# Altium footprint library aiskylab-16PCBAs.PcbLib: 8 footprints
Each footprint in its own frame and in the unit in brackets; x right, y up, seen from the top. Pads: shape width x height; smd on the part's side, far side on the other; paste and mask are expansions set on the pad; w line width, h text height; cw(c..) or ccw(c..) is an arc to the next point about the centre after c.
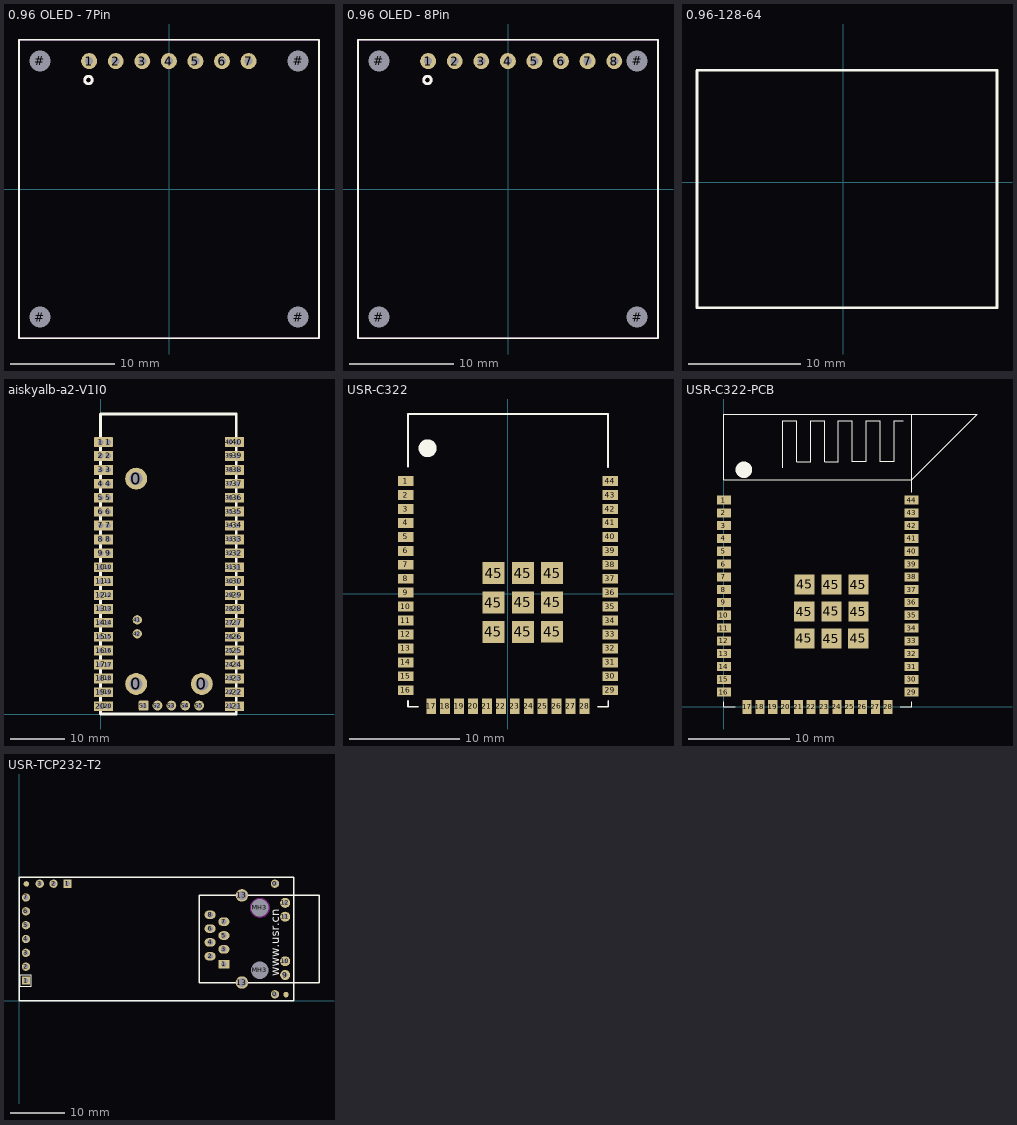
[diagram p0: the footprints below, top view; thin cyan lines are the x and y axes]

## 0.96 OLED - 7Pin [mil]
pads (11):
  round 60 hole 30: 1(-300.5,481.26) 2(-200.5,481.26) 3(-100.5,481.26) 4(-0.5,481.26) 5(99.5,481.26) 6(199.5,481.26) 7(299.5,481.26)
  round 60 hole 78.74: #(-485.76,-482.26) #(-485.76,482.26) #(485.76,-482.26) #(485.76,482.26)
Top Overlay:
  circle w10: c-303,410 r14.14
  lines w5.91: -564.5,-561 -564.5,561 564.5,561 564.5,-561 -564.5,-561
Top Designator:
  text ".Designator" at -300.06,-19.05 h60
Top Assembly:
  circle w10: c-303,410 r14.14
  lines w5.91: -564.5,-561 -564.5,561 564.5,561 564.5,-561 -564.5,-561
Top Component Outline:
  circle w10: c-303,410 r14.14
  lines w5.91: -564.5,-561 -564.5,561 564.5,561 564.5,-561 -564.5,-561
3D body "096-oled.stp": height 204.72, standoff -239.69, extent -567.77,-555.82 559.79,565.83

## 0.96 OLED - 8Pin [mil]
pads (12):
  round 60 hole 30: 1(-300.5,481.26) 2(-200.5,481.26) 3(-100.5,481.26) 4(-0.5,481.26) 5(99.5,481.26) 6(199.5,481.26) 7(299.5,481.26) 8(400,481.26)
  round 60 hole 78.74: #(-485.76,-482.26) #(-485.76,482.26) #(485.76,-482.26) #(485.76,482.26)
Top Overlay:
  circle w10: c-303,410 r14.14
  lines w5.91: -564.5,-561 564.5,-561 564.5,561 -564.5,561 -564.5,-561
Top Designator:
  text ".Designator" at -300.06,-19.05 h60
Top Assembly:
  circle w10: c-303,410 r14.14
  lines w5.91: -564.5,-561 564.5,-561 564.5,561 -564.5,561 -564.5,-561
Top Component Outline:
  circle w10: c-303,410 r14.14
  lines w5.91: -564.5,-561 564.5,-561 564.5,561 -564.5,561 -564.5,-561
3D body "096-oled.stp": height 204.72, standoff -239.69, extent -567.77,-555.82 559.79,565.83

## 0.96-128-64 [mm]
Top Overlay:
  lines w0.254: -13.005,-11.201 13.716,-11.201 13.716,9.957 -12.979,9.957 -13.005,9.931 -13.005,-11.201
Top Designator:
  text ".Designator" at -7.236,-1.131 h1.52
3D body: height 0.25, standoff 0, extent 0,0.127 0,0.127
3D body "128x64.stp": height 1.47, standoff -1.51, extent -12.969,-11.195 13.731,9.948

## aiskyalb-a2-V1I0 [mm] "48Pin 核心板"
pads (90):
  round 4 hole 2.4: 0(6.5,5.5) 0(6.5,43) 0(18.5,5.5)
  rrect25% 2.5x1.8 hole 1: 1(0,49.682)
  rrect25% 1.8x1.8 hole 1: 1(1.4,49.682) S1(7.849,1.549)
  rect 2.5x1.8 hole 1: 2(0,47.142) 3(0,44.602) 4(0,42.062) 5(0,39.522) 6(0,36.982) 7(0,34.442) 8(0,31.902) 9(0,29.362) 10(0,26.822) 11(0,24.282) 12(0,21.742) 13(0,19.202) 14(0,16.662) 15(0,14.122) 16(0,11.582) 17(0,9.042) 18(0,6.502) 19(0,3.962) 20(0,1.422) 21(24.997,1.422) 22(24.997,3.962) 23(24.997,6.502) 24(24.997,9.042) 25(24.997,11.582) 26(24.997,14.122) 27(24.997,16.662) 28(24.997,19.202) 29(24.997,21.742) 30(24.997,24.282) 31(24.997,26.822) 32(24.997,29.362) 33(24.997,31.902) 34(24.997,34.442) 35(24.997,36.982) 36(24.997,39.522) 37(24.997,42.062) 38(24.997,44.602) 39(24.997,47.142) 40(24.997,49.682)
  rect 1.8x1.8 hole 1: 2(1.4,47.142) 3(1.4,44.602) 4(1.4,42.062) 5(1.4,39.522) 6(1.4,36.982) 7(1.4,34.442) 8(1.4,31.902) 9(1.4,29.362) 10(1.4,26.822) 11(1.4,24.282) 12(1.4,21.742) 13(1.4,19.202) 14(1.4,16.662) 15(1.4,14.122) 16(1.4,11.582) 17(1.4,9.042) 18(1.4,6.502) 19(1.4,3.962) 20(1.4,1.422) 21(23.597,1.422) 22(23.597,3.962) 23(23.597,6.502) 24(23.597,9.042) 25(23.597,11.582) 26(23.597,14.122) 27(23.597,16.662) 28(23.597,19.202) 29(23.597,21.742) 30(23.597,24.282) 31(23.597,26.822) 32(23.597,29.362) 33(23.597,31.902) 34(23.597,34.442) 35(23.597,36.982) 36(23.597,39.522) 37(23.597,42.062) 38(23.597,44.602) 39(23.597,47.142) 40(23.597,49.682)
  round 1.7 hole 1: 41(6.7,17.2) 42(6.7,14.66)
  round 1.8 hole 1: S2(10.389,1.549) S3(12.929,1.549) S4(15.469,1.549) S5(18.009,1.549)
Top Overlay:
  lines w0.5: 0,0 0,54.788 0.025,54.813 24.79,54.813 24.79,0 0,0
Top Designator:
  text ".Designator" at 4.881,26.899 h1.52
3D body "STM32F103CxT6核心板-V1I1.step": height 9.5, standoff -3.2, extent 0,0 24.8,54.8

## AISKYLAB-A2-V1I0 [mm]
3D body "AISkyLab-STM32F405_407VG核心板-V1I0.step": height 13.1, standoff 0.4, extent -34.813,-15.011 34.813,15.014

## USR-C322 [mm]
height 8.5
pads (53):
  rect 1.4x0.9 smd: 1(-9.31,10.26) 2(-9.31,8.99) 3(-9.31,7.72) 4(-9.31,6.45) 5(-9.31,5.18) 6(-9.31,3.91) 7(-9.31,2.64) 8(-9.31,1.37) 9(-9.31,0.1) 10(-9.31,-1.17) 11(-9.31,-2.44) 12(-9.31,-3.71) 13(-9.31,-4.98) 14(-9.31,-6.25) 15(-9.31,-7.52) 16(-9.31,-8.79) 29(9.31,-8.79) 30(9.31,-7.52) 31(9.31,-6.25) 32(9.31,-4.98) 33(9.31,-3.71) 34(9.31,-2.44) 35(9.31,-1.17) 36(9.31,0.1) 37(9.31,1.37) 38(9.31,2.64) 39(9.31,3.91) 40(9.31,5.18) 41(9.31,6.45) 42(9.31,7.72) 43(9.31,8.99) 44(9.31,10.26)
  rect 0.9x1.4 smd: 17(-7,-10.26) 18(-5.73,-10.26) 19(-4.46,-10.26) 20(-3.19,-10.26) 21(-1.92,-10.26) 22(-0.65,-10.26) 23(0.62,-10.26) 24(1.89,-10.26) 25(3.16,-10.26) 26(4.43,-10.26) 27(5.71,-10.26) 28(6.98,-10.26)
  rect 2x2 smd: 45(-1.332,-0.809) 45(-1.325,-3.47) 45(-1.312,1.885) 45(1.349,1.872) 45(1.349,-3.476) 45(1.362,-0.782) 45(4.017,-3.463) 45(4.03,-0.796) 45(4.03,1.872)
Top Overlay:
  circle w1: c-7.336,13.26 r0.316
  lines w0.152: -9.119,-9.76 -9.119,-10.287 -8.19,-10.287 ; -9.119,11.582 -9.119,16.383 9.119,16.383 9.119,11.557 ; 8.19,-10.287 9.144,-10.287 9.144,-9.76
Top Designator:
  text ".Designator" at -7.618,2.191 h1.52
Top 3D Body:
  lines w0.152: -9.119,11.582 -9.119,16.383 9.119,16.383 9.119,11.557
3D body "usr-wifi_c322.stp": height 2.82, standoff 0, extent -9.106,-10.283 9.13,16.375

## USR-C322-PCB [mm]
pads (53):
  rect 1.4x0.9 smd: 1(0,20.52) 2(0,19.25) 3(0,17.98) 4(0,16.71) 5(0,15.44) 6(0,14.17) 7(0,12.9) 8(0,11.63) 9(0,10.36) 10(0,9.09) 11(0,7.82) 12(0,6.55) 13(0,5.28) 14(0,4.01) 15(0,2.74) 16(0,1.47) 29(18.62,1.47) 30(18.62,2.74) 31(18.62,4.01) 32(18.62,5.28) 33(18.62,6.55) 34(18.62,7.82) 35(18.62,9.09) 36(18.62,10.36) 37(18.62,11.63) 38(18.62,12.9) 39(18.62,14.17) 40(18.62,15.44) 41(18.62,16.71) 42(18.62,17.98) 43(18.62,19.25) 44(18.62,20.52)
  rect 0.9x1.4 smd: 17(2.31,0) 18(3.58,0) 19(4.85,0) 20(6.12,0) 21(7.39,0) 22(8.66,0) 23(9.93,0) 24(11.2,0) 25(12.47,0) 26(13.74,0) 27(15.02,0) 28(16.29,0)
  rect 2x2 smd: 45(7.978,9.451) 45(7.985,6.79) 45(7.998,12.145) 45(10.659,12.132) 45(10.659,6.784) 45(10.672,9.478) 45(13.327,6.797) 45(13.34,9.464) 45(13.34,12.132)
Top Overlay:
  circle w1: c1.974,23.52 r0.316
  lines w0.07: 0,0.5 0,0 1.12,0 ; 5.84,23.73 5.84,24.33 5.84,28.4 ; 5.84,28.39 7.21,28.39 ; 7.22,24.34 7.22,28.4 7.22,24.33 8.6,24.33 8.6,28.4 ; 8.6,24.34 8.6,28.4 ; 9.98,24.34 9.98,28.4 ; 11.35,24.33 9.98,24.33 9.98,28.4 ; 11.36,24.32 11.36,28.39 ; 11.36,24.34 11.36,28.4 12.73,28.4 ; 12.74,24.34 14.12,24.34 14.12,28.4 14.12,24.33 ; 12.74,28.39 12.74,24.33 12.74,28.4 ; 14.12,28.39 15.5,28.39 ; 15.5,24.33 15.5,28.4 ; 16.88,28.39 17.8,28.39 ; 16.88,28.4 16.88,24.34 15.5,24.34 ; 17.5,0 18.62,0 18.62,0.5 ; 18.62,21.31 18.62,23.07 ; 18.62,21.5 18.62,29.05 ; 8.6,28.4 9.98,28.4 ; 15.5,24.34 15.5,28.4 ; 15.5,24.34 15.5,28.4 ; 0,22.55 18.62,22.55 25.12,29.05 0,29.05 0,22.55
Top Designator:
  text ".Designator" at 4.559,13.634 h1.52
3D body "usr-wifi_c322.stp": height 2.82, standoff 0, extent 0.203,0 18.439,26.658

## USR-TCP232-T2 [mil]
pads (30):
  round 39.37 smd: 0(53,843) 0(1930,43)
  round 60 hole 35.43: 0(1850,45) 0(1850,845) 2(50,245) 2(250,845) 3(50,345) 3(150,845) 4(50,445) 5(50,545) 6(50,645) 7(50,745)
  rect 60x60 hole 35.43: 1(50,145) 1(350,845)
  rect 80x62 hole 40: 1(1481,262.33)
  oval 80x62 hole 40: 2(1381,320.2) 3(1481,370.2) 4(1381,420.2) 5(1481,470.2) 6(1381,520.2) 7(1481,570.2) 8(1381,620.2)
  round 72 hole 36: 9(1923.91,184.57) 10(1923.91,284.2) 11(1923.91,606.07) 12(1923.91,706.2)
  round 90 hole 65: 13(1610.92,130.44) 13(1610.92,760.36)
  round 116.14 hole 127.95 unplated: MH3(1741,220.2) MH3(1741,670.2)
Top Overlay:
  lines w8: 10,105 10,185 90,185 90,105 10,105
  lines w10: 1302.26,130.2 1302.5,130.44 ; 1302.26,760.2 1302.42,760.36 ; 2168.4,130.2 2168.4,760.2 ; 2168.4,130.44 1610.92,130.44 1302.5,130.44 ; 2168.4,760.36 1610.92,760.36 1302.42,760.36 ; 1302.42,760.36 1302.42,130.51 1302.5,130.44 ; 0,0 1985,0 1985,890 0,890 0,0
  text "www.usr.cn" at 1881,175 h60
Bottom Overlay:
  text "5V:VDD" at 441,108 h60
  text "3.3V:VCC" at 542,211 h60
  text "GND" at 261,310 h60
  text "CFG" at 270,721 h60
  text "RST" at 261,410 h60
  text "TXD" at 261,510 h60
  text "RXD" at 261,610 h60
  text "USR-TCP232-T2" at 1255,738 h50
Keep-Out Layer:
  board cut-out: 1670.19,670.2 1670.19,663.23 1672.91,649.55 1678.25,636.66 1686,625.06 1695.86,615.2 1707.46,607.45 1720.35,602.11 1734.03,599.39 1741,599.39 1747.97,599.39 1761.65,602.11 1774.54,607.45 1786.14,615.2 1796,625.06 1803.75,636.66 1809.09,649.55 1811.81,663.23 1811.81,670.2 1811.81,677.17 1809.09,690.85 1803.75,703.74 1796,715.34 1786.14,725.2 1774.54,732.95 1761.65,738.29 1747.97,741.01 1741,741.01 1734.03,741.01 1720.35,738.29 1707.46,732.95 1695.86,725.2 1686,715.34 1678.25,703.74 1672.91,690.85 1670.19,677.17
Top Designator:
  text ".Designator" at 784.3,425.01 h60
Multi-Layer:
  circle w5: c1741,670.2 r70.8
  circle w5: c1741,220.2 r70.8
  pour cut-out: 1671.19,221 1671.19,214.03 1673.91,200.35 1679.25,187.46 1687,175.86 1696.86,166 1708.46,158.25 1721.35,152.91 1735.03,150.19 1742,150.19 1748.97,150.19 1762.65,152.91 1775.54,158.25 1787.14,166 1797,175.86 1804.75,187.46 1810.09,200.35 1812.81,214.03 1812.81,221 1812.81,227.97 1810.09,241.65 1804.75,254.54 1797,266.14 1787.14,276 1775.54,283.75 1762.65,289.09 1748.97,291.81 1742,291.81 1735.03,291.81 1721.35,289.09 1708.46,283.75 1696.86,276 1687,266.14 1679.25,254.54 1673.91,241.65 1671.19,227.97
3D body: height 62.99, standoff 0, extent 0,0 1984,889
3D body "User Library-HR911105A.step": height 594.49, standoff -55.12, extent 1323.48,133.4 2166,758.6